# Altium footprint library Footprints.PcbLib: 7 footprints
Each footprint in its own frame and in the unit in brackets; x right, y up, seen from the top. Pads: shape width x height; smd on the part's side, far side on the other; paste and mask are expansions set on the pad; w line width, h text height; cw(c..) or ccw(c..) is an arc to the next point about the centre after c.
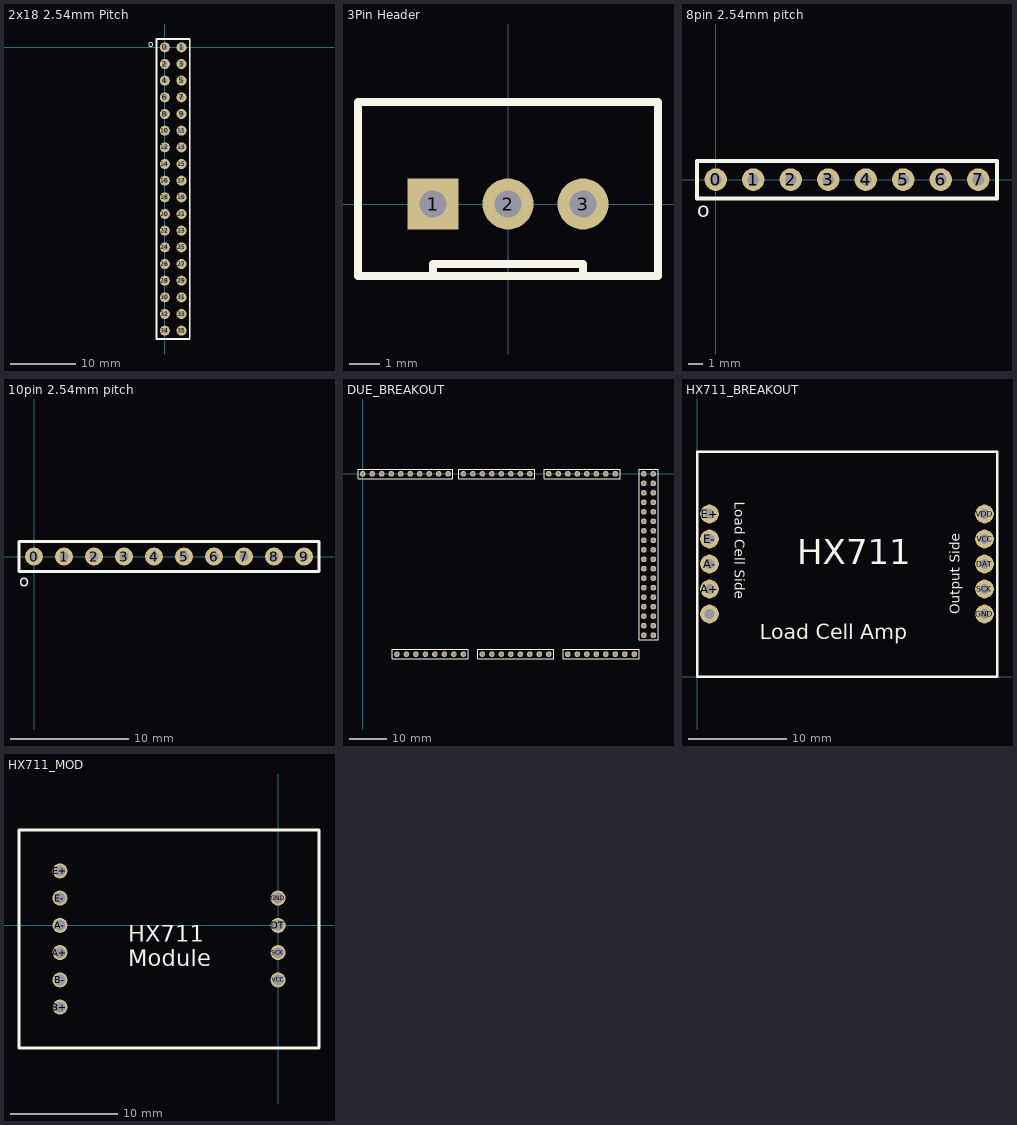
[diagram p0: the footprints below, top view; thin cyan lines are the x and y axes]

## 2x18 2.54mm Pitch [mil] "Header"
pads (36):
  round 60 hole 30: 0(0,0) 1(100,0) 2(0,-100) 3(100,-100) 4(0,-200) 5(100,-200) 6(0,-300) 7(100,-300) 8(0,-400) 9(100,-400) 10(0,-500) 11(100,-500) 12(0,-600) 13(100,-600) 14(0,-700) 15(100,-700) 16(0,-800) 17(100,-800) 18(0,-900) 19(100,-900) 20(0,-1000) 21(100,-1000) 22(0,-1100) 23(100,-1100) 24(0,-1200) 25(100,-1200) 26(0,-1300) 27(100,-1300) 28(0,-1400) 29(100,-1400) 30(0,-1500) 31(100,-1500) 32(0,-1600) 33(100,-1600) 34(0,-1700) 35(100,-1700)
Top Overlay:
  lines w10: -50,-1750 -50,50 150,50 150,-1750 -50,-1750
  text "o" at -100,0 h40

## 3Pin Header [mm] "2.5mm pitch header male shrouded"
pads (3):
  rect 1.7x1.7 hole 0.9: 1(-2.5,0)
  round 1.7 hole 0.9: 2(0,0) 3(2.5,0)
Top Overlay:
  lines w0.254: -2.5,-2.4 -2.5,-2 2.5,-2 2.5,-2.4 ; -5,-2.4 -5,3.4 5,3.4 5,-2.4 -5,-2.4

## 8pin 2.54mm pitch [mil] "Header"
pads (8):
  round 60 hole 30: 0(0,0) 1(100,0) 2(200,0) 3(300,0) 4(400,0) 5(500,0) 6(600,0) 7(700,0)
Top Overlay:
  lines w10: -50,-50 -50,50 750,50 750,-50 -50,-50
  text "o" at -50,-100 h40

## 10pin 2.54mm pitch [mil] "Header"
pads (10):
  round 60 hole 30: 0(0,0) 1(100,0) 2(200,0) 3(300,0) 4(400,0) 5(500,0) 6(600,0) 7(700,0) 8(800,0) 9(900,0)
Top Overlay:
  lines w10: -50,-50 -50,50 750,50 950,50 950,-50 750,-50 -50,-50
  text "o" at -50,-100 h40

## DUE_BREAKOUT [mil]
pads (86):
  round 60 hole 40: 0(0,0) 1(100,0) 2(400,0) 3(500,0) 3.3V(660,-1900) 4(600,0) 5(700,0) 5V(760,-1900) 5V(2960,0) 5V(3060,0) 6(800,0) 7(900,0) 8(1060,0) 9(1160,0) 10(1260,0) 11(1360,0) 12(1460,0) 13(1560,0) 14(1660,0) 15(1760,0) 16(1960,0) 17(2060,0) 18(2160,0) 19(2260,0) 20(2360,0) 21(2460,0) 22(2560,0) 23(2660,0) 24(2960,-100) 25(3060,-100) 26(2960,-200) 27(3060,-200) 28(2960,-300) 29(3060,-300) 30(2960,-400) 31(3060,-400) 32(2960,-500) 33(3060,-500) 34(2960,-600) 35(3060,-600) 36(2960,-700) 37(3060,-700) 38(2960,-800) 39(3060,-800) 40(2960,-900) 41(3060,-900) 42(2960,-1000) 43(3060,-1000) 44(2960,-1100) 45(3060,-1100) 46(2960,-1200) 47(3060,-1200) 48(2960,-1300) 49(3060,-1300) 50(2960,-1400) 51(3060,-1400) 52(2960,-1500) 53(3060,-1500) 54(2960,-1600) 55(3060,-1600) 56(2860,-1900) 57(2760,-1900) 58(2660,-1900) 59(2560,-1900) 60(2460,-1900) 61(2360,-1900) 62(2260,-1900) 63(2160,-1900) 64(1960,-1900) 65(1860,-1900) 66(1760,-1900) 67(1660,-1900) 68(1560,-1900) 69(1460,-1900) 70(1360,-1900) 71(1260,-1900) AREF(200,0) GND(300,0) GND(860,-1900) GND(960,-1900) GND(2960,-1700) GND(3060,-1700) IOREF(460,-1900) NC(360,-1900) RESET(560,-1900) VIN(1060,-1900)
Top Overlay:
  lines w10: -50,-50 -50,50 750,50 950,50 950,-50 750,-50 -50,-50 ; 310,-1950 1110,-1950 1110,-1850 310,-1850 310,-1950 ; 1010,-50 1810,-50 1810,50 1010,50 1010,-50 ; 1210,-1950 2010,-1950 2010,-1850 1210,-1850 1210,-1950 ; 1910,-50 2710,-50 2710,50 1910,50 1910,-50 ; 2110,-1950 2910,-1950 2910,-1850 2110,-1850 2110,-1950 ; 2910,-1750 3110,-1750 3110,50 2910,50 2910,-1750

## HX711_BREAKOUT [mil]
pads (10):
  round 75 hole 40: A+(50,350) A-(50,450) DAT(1150,450) E+(50,650) E-(50,550) GND(1150,250) SCK(1150,350) SHEILD(50,250) VCC(1150,550) VDD(1150,650)
Top Overlay:
  lines w10: 0,0 0,900 1200,900 1200,0 0,0
  text "HX711" at 400,450 h100
  text "Load Cell Amp" at 250,150 h60
  text "Load Cell Side" at 150,700 h40
  text "Output Side" at 1050,250 h40
3D body "104346-3--3DModel-STEP-1.STEP": height 330, standoff -110, extent 3.99,208.01 95.99,692.01
3D body "104346-3--3DModel-STEP-1.STEP": height 330, standoff -110, extent 1104,208.01 1196,692.01

## HX711_MOD [mm] "the green one"
pads (10):
  round 1.4 hole 1: A+(-20.32,-2.54) A-(-20.32,0) B+(-20.32,-7.62) B-(-20.32,-5.08) DT(0,0) E+(-20.32,5.08) E-(-20.32,2.54) GND(0,2.54) SCK(0,-2.54) VCC(0,-5.08)
Top Overlay:
  lines w0.254: -24.13,-11.43 3.81,-11.43 3.81,8.89 -24.13,8.89 -24.13,-11.43
  text "HX711 / Module" at -13.97,-3.81 h1.52